# Altium schematic symbol library D_DualDiodes_CommonCathode.SchLib: 1 symbol
Pins are listed as number, name and electrical type; pins without a type are passive.

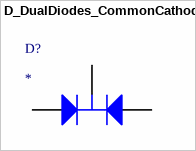
[diagram p0: symbol D_DualDiodes_CommonCathode]

## D_DualDiodes_CommonCathode
designator D?
pins: 1, 2, 3